# EAGLE library part XBEE (library xbee)
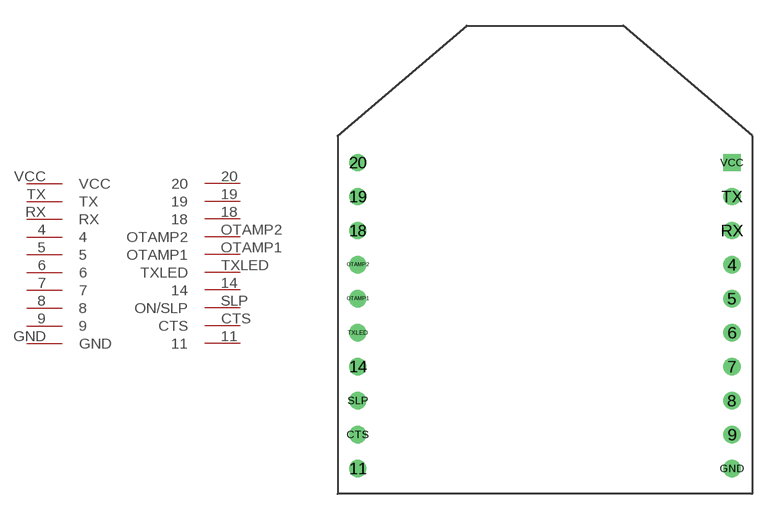
[diagram p0: symbol with the pads of XBEE; footprint XBEE]

Designator prefix -

## XBEE  [XBEE]
4  4
5  5
6  6
7  7
8  8
9  9
11  11
14  14
18  18
19  19
20  20
CTS  CTS
GND  GND
OTAMP1  OTAMP1
OTAMP2  OTAMP2
RX  RX
SLP  ON/SLP
TX  TX
TXLED  TXLED
VCC  VCC

## Footprint XBEE (pad centres in mm)
drill 0.51: 4 11,3; 5 11,1; 6 11,-1; 7 11,-3; 8 11,-5; 9 11,-7; 11 -11,-9; 14 -11,-3; 18 -11,5; 19 -11,7; 20 -11,9; CTS -11,-7; GND 11,-9; OTAMP1 -11,1; OTAMP2 -11,3; RX 11,5; SLP -11,-5; TX 11,7; TXLED -11,-1
drill 0.51 square: VCC 11,9